# Altium schematic symbol library MicRadarR60x.SchLib: 1 symbol
Pins are listed as number, name and electrical type; pins without a type are passive.

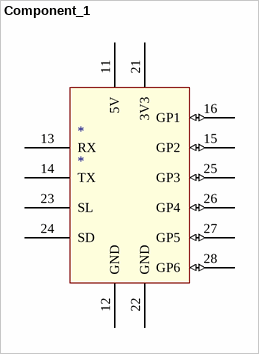
[diagram p0: symbol Component_1]

## Component_1
designator *
footprint R60xModule_SMD (MicRadar R60x Smd)
footprint R60xModule_TH (MicRadar R60x Trough Hole)
pins: 11 5V (power), 12 GND (power), 13 RX, 14 TX, 15 GP2 (io), 16 GP1 (io), 21 3V3 (power), 22 GND (power), 23 SL, 24 SD, 25 GP3 (io), 26 GP4 (io), 27 GP5 (io), 28 GP6 (io)